# EAGLE library part ASD-10D (library dk30a)
10W DC-DC converter - regulated dual output Specifications can be viewed at http://computronics.com.au/meanwell/asd10h-d/
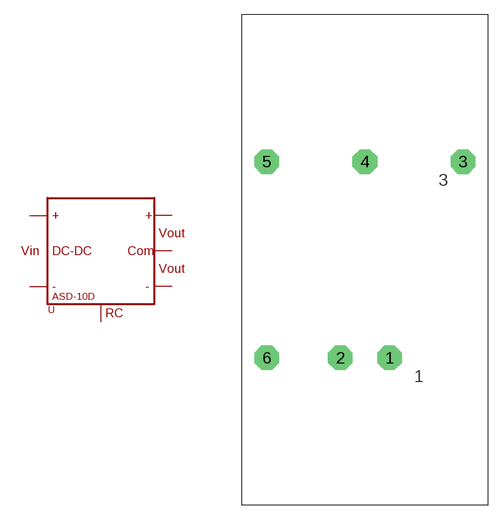
[diagram p10: symbol with the pads of ASD10; footprint ASD10]

Designator prefix -

## ASD-10D  [ASD10]
1  +VIN  pwr
2  -VIN  pwr
3  +VOUT  pwr
4  COM  pwr
5  -VOUT  pwr
6  RC

## Footprint ASD10 (pad centres in mm)
DC-DC module
drill 1.27 pad 2.54 octagon: 1 2.54,-10.16; 2 -2.54,-10.16; 3 10.16,10.16; 4 0,10.16; 5 -10.16,10.16; 6 -10.16,-10.16